# Altium schematic symbol library SWARM_M138.SCHLIB: 1 symbol
Pins are listed as number, name and electrical type; pins without a type are passive.

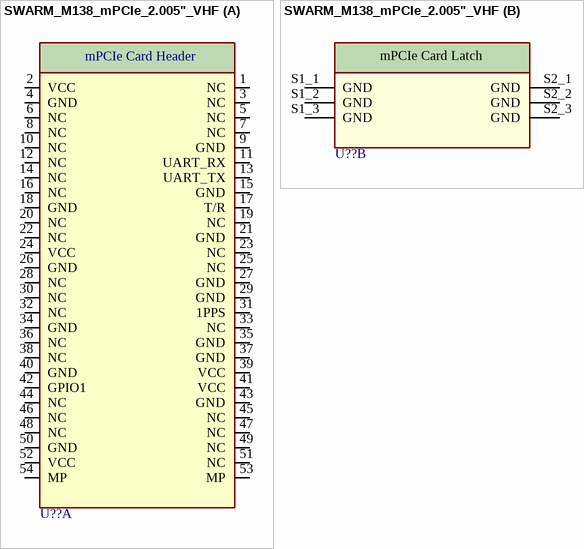
[diagram p0: symbol SWARM_M138_mPCIe_2.005"_VHF]

## SWARM_M138_mPCIe_2.005"_VHF
designator U??, comment A: MM60-52B1-B1-R850 B: MM60-EZH039-B5-R850  (value not drawn)
SWARM M138 MODEM mPCIe 2.005" (50.925mm) x 1.18" (30mm)  Two part connector; MANUF1: JAE; TEMP: -40°C ~ 85°C; Size: mPCIe; SPECIAL_INSTRUCTIONS: A: MM60-52B1-B1-R850 B: MM60-EZH039-B5-R850; Supplier: Digikey; Supplier P/N: A: 670-2274-2-ND B: 670-2276-2-ND; Type: CONN; MANUF1 P/N: A: MM60-52B1-B1-R850 B: MM60-EZH039-B5-R850
signal-integrity model Model Name (Model Description)
footprint RF_VHF_JAE_MM60-52B1-B1-R850_MM60-EZH039-B5-R850_w_2005_mPCIe_card
part A pins: 1 NC (oc), 2 VCC (power), 3 NC, 4 GND (power), 5 NC, 6 NC, 7 NC (oc), 8 NC, 9 GND (power), 10 NC, 11 UART_RX, 12 NC, 13 UART_TX, 14 NC, 15 GND (power), 16 NC, 17 T/R, 18 GND (power), 19 NC, 20 NC, 21 GND (power), 22 NC, 23 NC, 24 VCC, 25 NC, 26 GND (power), 27 GND (power), 28 NC, 29 GND (power), 30 NC, 31 1PPS, 32 NC, 33 NC, 34 GND (power), 35 GND (power), 36 NC, 37 GND (power), 38 NC, 39 VCC (power), 40 GND (power), 41 VCC (power), 42 GPIO1, 43 GND (power), 44 NC, 45 NC, 46 NC, 47 NC, 48 NC, 49 NC, 50 GND (power), 51 NC, 52 VCC (power), 53 MP (power), 54 MP (power)
part B pins: S1_1 GND (power), S1_2 GND (power), S1_3 GND (power), S2_1 GND (power), S2_2 GND (power), S2_3 GND (power)
1 alternate drawing of the same symbol
part A text: mPCIe Card Header
part B text: mPCIe Card Latch